# EAGLE library part LCD-QP-5512 (library steves)
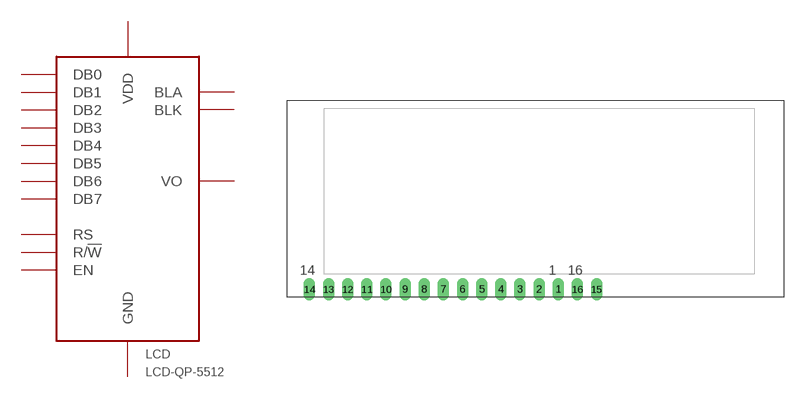
[diagram p39: symbol with the pads of LCD-QP-5512; footprint LCD-QP-5512]

Designator prefix LCD

## LCD-QP-5512  [LCD-QP-5512]
1  GND  pwr
2  VDD  pwr
3  VO  in
4  RS  in
5  R/!W  in
6  EN  in
7  DB0
8  DB1
9  DB2
10  DB3
11  DB4
12  DB5
13  DB6
14  DB7
15  BLA  pwr
16  BLK  pwr

## Footprint LCD-QP-5512 (pad centres in mm)
Jaycar 16x2 LCD display with SIL connection.
drill 1 long: 1 33.02,0; 2 30.48,0; 3 27.94,0; 4 25.4,0; 5 22.86,0; 6 20.32,0; 7 17.78,0; 8 15.24,0; 9 12.7,0; 10 10.16,0; 11 7.62,0; 12 5.08,0; 13 2.54,0; 14 0,0; 15 38.1,0; 16 35.56,0